# Altium footprint library PcbLib1.PcbLib: 4 footprints
Each footprint in its own frame and in the unit in brackets; x right, y up, seen from the top. Pads: shape width x height; smd on the part's side, far side on the other; paste and mask are expansions set on the pad; w line width, h text height; cw(c..) or ccw(c..) is an arc to the next point about the centre after c.
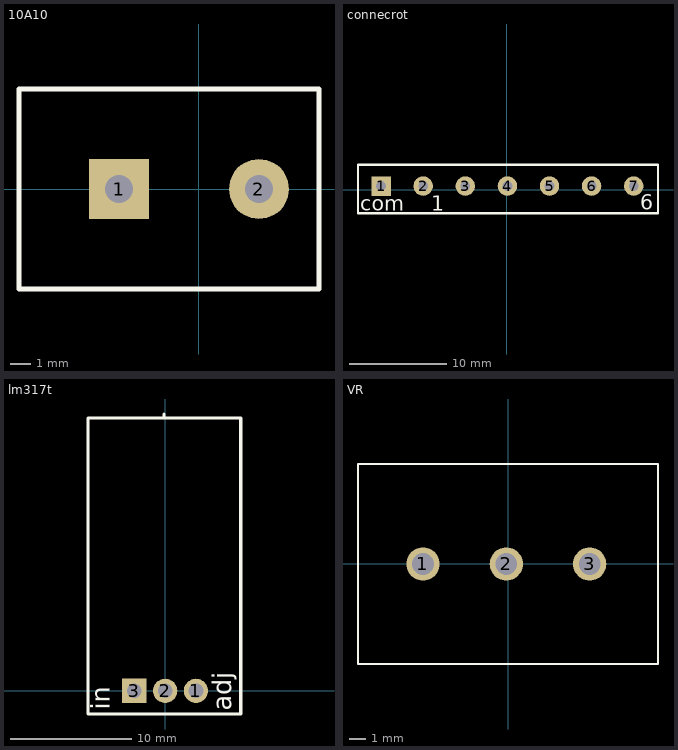
[diagram p0: the footprints below, top view; thin cyan lines are the x and y axes]

## 10A10 [mm]
pads (2):
  rect 3x3 hole 1.4: 1(-4,0)
  round 3 hole 1.4: 2(3,0)
Top Overlay:
  lines w0.254: -9,-5 6,-5 6,5 -9,5 -9,-5
3D body "10a10 v2.step": height 19.6, standoff -1.5, extent -8.297,-4.3 3.599,4.3

## connecrot [mm]
pads (7):
  rect 2x2 hole 1: 1(-12.924,0.4)
  round 2 hole 1: 2(-8.587,0.4) 3(-4.249,0.4) 4(0.088,0.4) 5(4.425,0.4) 6(8.763,0.4) 7(13.1,0.4)
Top Overlay:
  lines w0.25: -15.3,-2.4 -15.3,2.6 15.6,2.6 15.6,-2.4 -15.3,-2.4
  text "6" at 13.754,-2.046 h1.52
  text "1" at -7.746,-2.146 h1.52
  text "com" at -15.046,-2.146 h1.52

## lm317t [mm]
pads (3):
  round 2 hole 1.2: 1(2.54,0) 2(0,0)
  rect 2x2 hole 1.2: 3(-2.54,0)
Top Overlay:
  lines w0.254: -0.1,22.8 -0.1,22.5 -0.121,22.479 -6.35,22.479 ; -6.35,22.479 -5.969,22.479 6.223,22.479 6.223,-1.905 -6.35,-1.905 -6.35,22.479
  text "adj" at 5.461,-1.651 h1.52
  text "in" at -4.554,-1.546 h1.52
3D body "lm317 v1.step": height 4, standoff -7.4, extent -5,-0.254 5,21.546

## VR [mm]
pads (3):
  round 2 hole 1.3: 1(-5.1,0) 2(-0.1,0) 3(4.9,0)
Top Overlay:
  lines w0.127: -9,-6 -9,6 9,6 9,-6 -9,-6
3D body "B10K potentiometer 10K v1.step": height 22.31, standoff -2.24, extent -8.699,-19.8 8.4,5.2